# Altium footprint library Connector_TE-Connectivity.PcbLib: 65 footprints (part 5 of 5)
Each footprint in its own frame and in the unit in brackets; x right, y up, seen from the top. Pads: shape width x height; smd on the part's side, far side on the other; paste and mask are expansions set on the pad; w line width, h text height; cw(c..) or ccw(c..) is an arc to the next point about the centre after c.
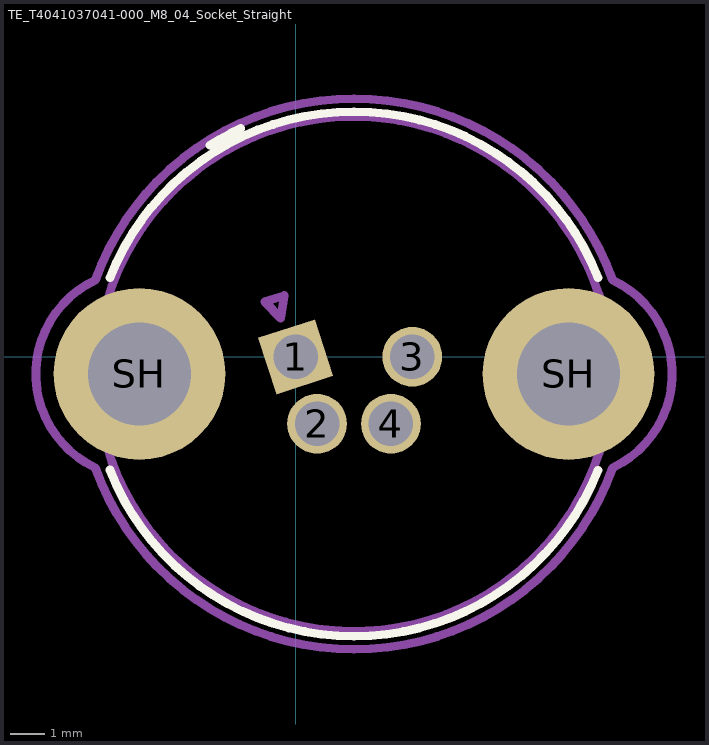
[diagram p4: the footprint, top view; thin cyan lines are the x and y axes]

## TE_T4041037041-000_M8_04_Socket_Straight [mm]
pads (6):
  rect 1.74x1.74 hole 1.3 rot 17.8: 1(0,0)
  round 1.74 hole 1.3: 2(0.625,-1.95) 3(3.4,0) 4(2.775,-1.95)
  round 5 hole 3: SH(-4.55,-0.5) SH(7.95,-0.5)
F.SilkS:
  lines w0.254: -5.41,-3.3 ccw(c1.7,-0.5) 8.809,-3.303 ; -5.409,2.303 cw(c1.7,-0.5) 8.81,2.3 ; -2.496,6.164 cw(c1.7,-0.5) -1.6,6.65
Top Assembly:
  circle w0.254: c1.7,-0.5 r7.5
  lines w0.254: -0.9,1.6 -0.329,1.783 -0.431,1.12 -0.9,1.6
  text "'.Designator'" at -2.297,-1.34 h1
Top Courtyard:
  lines w0.254: -5.84,-3.23 ccw(c1.7,-0.508) 9.24,-3.23 ccw(c7.95,-0.5) 9.24,2.23 ccw(c1.7,-0.497) -5.84,2.23 ccw(c-4.55,-0.5) -5.84,-3.23
Top Designator:
  text ".Designator" at -5.918,-1.01 h1.52